# Altium schematic symbol library DC_XT.SchLib: 1 symbol
Pins are listed as number, name and electrical type; pins without a type are passive.

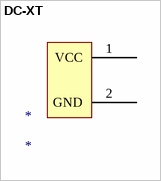
[diagram p0: symbol DC-XT]

## DC-XT
designator *
footprint DC_XT
pins: 1 VCC, 2 GND